# Altium footprint library PCB - IND - 784787121.PCBLIB: 1 footprints
Each footprint in its own frame and in the unit in brackets; x right, y up, seen from the top. Pads: shape width x height; smd on the part's side, far side on the other; paste and mask are expansions set on the pad; w line width, h text height; cw(c..) or ccw(c..) is an arc to the next point about the centre after c.
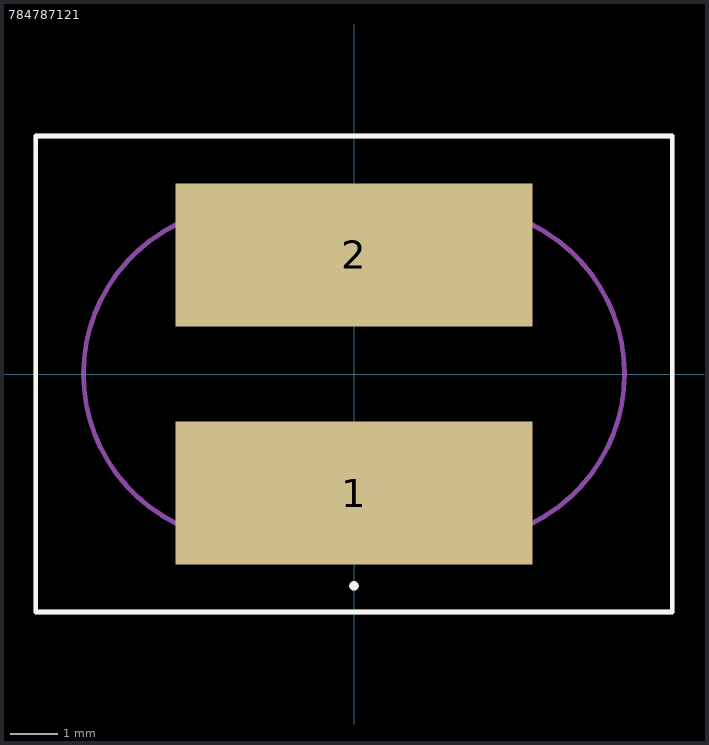
[diagram p0: the footprint, top view; thin cyan lines are the x and y axes]

## 784787121 [mm]
pads (2):
  rect 7.5x3 smd: 1(0,-2.5) 2(0,2.5)
Top Overlay:
  lines w0.1: -6.684,-5 -6.684,5 6.684,5 6.684,-5 -6.684,-5 ; 0,-4.5 ccw(c0,-4.45) 0,-4.4 ccw(c0,-4.45) 0,-4.5
Top Assembly:
  lines w0.1: -2.184,-3.5 cw(c-2.184,0) -2.184,3.5 2.184,3.5 cw(c2.184,0) 2.184,-3.5 -2.184,-3.5
Top Courtyard:
  lines w0.1: -6.684,-5 -6.684,5 6.684,5 6.684,-5 -6.684,-5
Top Designator:
  text ".Designator" at -6.604,5.269 h1
Top Value (Mech13):
  text ".Comment" at 2.54,5.218 h1